# EAGLE library part ICSP_6PIN (library AIC_Custom)
AVR ISP 6 Pin This is the reduced ISP connector for AVR programming. Common on Arduino. This footprint will take up less PCB space and can be used with a 10-pin to 6-pin adapter such as SKU: BOB-08508 **Special note about "TEST_POINT" package. The stop mask is on the top side, so if you want your programming test points to be on the bottom of your board, make sure to place this package on the bottom side of the board. This also ensure that the orientation to program from the bottom side will be correct.
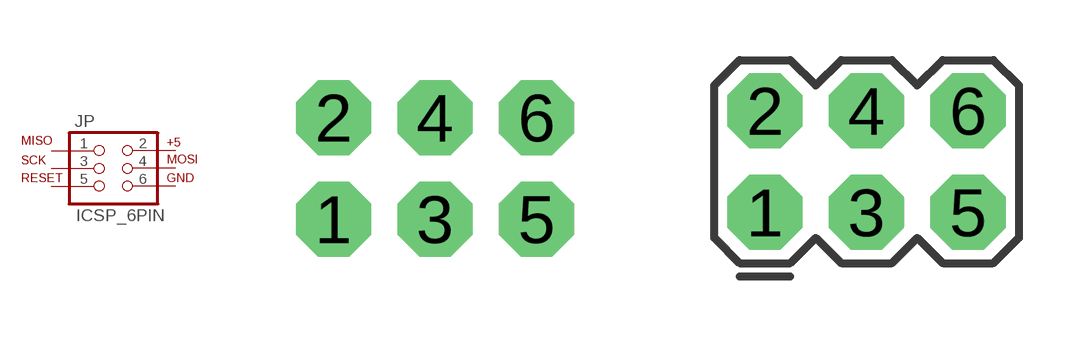
[diagram p19: symbol with the pads of 2X3_ICSP_BOTTOM; footprints 2X3_ICSP_BOTTOM, 2X3_ICSP_TOP]

Designator prefix JP

## ICSP_6PINBOTTOM  [2X3_ICSP_BOTTOM]
1  1  pas
2  2  pas
3  3  pas
4  4  pas
5  5  pas
6  6  pas

## ICSP_6PINTOP  [2X3_ICSP_TOP]
Pads as for 2X3_ICSP_BOTTOM

## Footprint 2X3_ICSP_BOTTOM (pad centres in mm)
6-pin ICSP Connector, bottom mounting
drill 1.016 pad 1.88 octagon: 1 0,0; 2 0,2.54; 3 2.54,0; 4 2.54,2.54; 5 5.08,0; 6 5.08,2.54

## Footprint 2X3_ICSP_TOP (pad centres in mm)
6-pin ICSP Connector, top mounting
drill 1.016 pad 1.88 octagon: 1 0,0; 2 0,2.54; 3 2.54,0; 4 2.54,2.54; 5 5.08,0; 6 5.08,2.54